# Altium schematic symbol library MICRON-MT29F4G16AABWG.schlib: 1 symbol
Pins are listed as number, name and electrical type; pins without a type are passive.

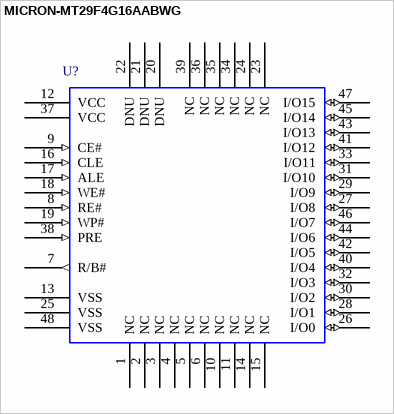
[diagram p0: symbol MICRON-MT29F4G16AABWG]

## MICRON-MT29F4G16AABWG
designator U?  (value not drawn)
2 4 and 8Gb x8/x16 Mux NAND Flash Memory; CircuitryPartsPN: MICRON-MT29F4G16AABWG; ManufacturerPN: MT29F4G16AABWG; Manufacturer: Micron Technology Inc; CategoryI: Integrated Circuits (ICs); SchematicRev: A; DesignedBy: Circuitry Parts; MfgURL: http://www.micron.com/; PackageName: TSOPI48; FootprintName: *; CategoryII: NAND FLASH MEMORY; Value: *; DesignedOn: 7/18/2005 3:01:39 PM
pins: 1 NC, 2 NC, 3 NC, 4 NC, 5 NC, 6 NC, 7 R/B# (out), 8 RE# (in), 9 CE# (in), 10 NC, 11 NC, 12 VCC (power), 13 VSS (power), 14 NC, 15 NC, 16 CLE (in), 17 ALE (in), 18 WE# (in), 19 WP# (in), 20 DNU, 21 DNU, 22 DNU, 23 NC, 24 NC, 25 VSS (power), 26 I/O0 (io), 27 I/O8 (io), 28 I/O1 (io), 29 I/O9 (io), 30 I/O2 (io), 31 I/O10 (io), 32 I/O3 (io), 33 I/O11 (io), 34 NC, 35 NC, 36 NC, 37 VCC (power), 38 PRE (in), 39 NC, 40 I/O4 (io), 41 I/O12 (io), 42 I/O5 (io), 43 I/O13 (io), 44 I/O6 (io), 45 I/O14 (io), 46 I/O7 (io), 47 I/O15 (io), 48 VSS (power)